# Altium integrated library Analog Devices Data Converters Digital-to-Analog Converters.IntLib: 2231 symbols (part 23 of 181)
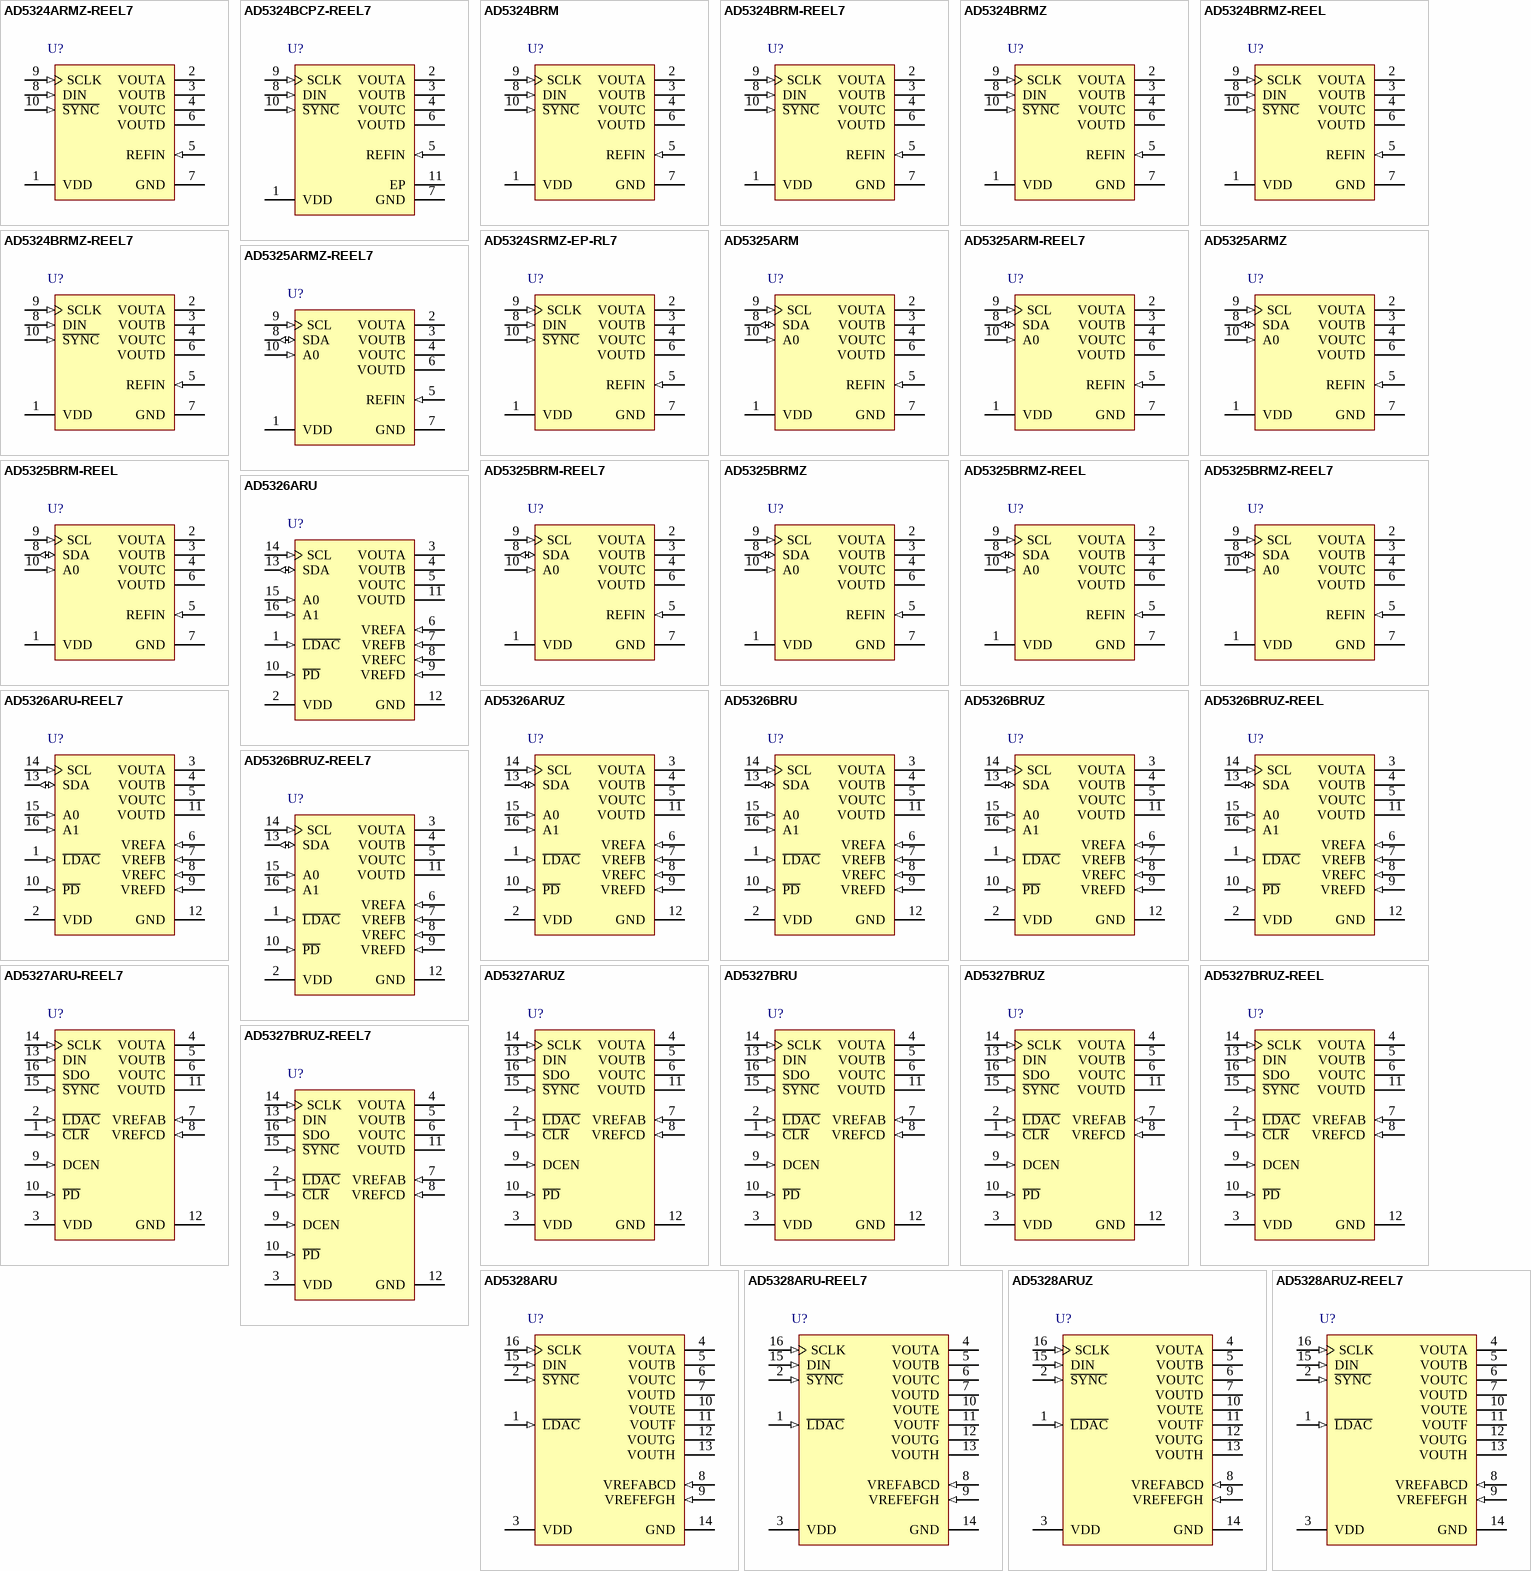
[diagram p136: symbols AD5324ARMZ-REEL7 to AD5328ARUZ-REEL7]

## AD5324BRM
designator U?
Quad 12-Bit Quad Voltage Output Digital-to-Analog Converter, 2.5 to 5.5 V, 500 uA, -40 to +105 degC, RM-10, Tube; Generic Part Number: AD5324; Manufacturer: Analog Devices; PartNumber: AD5324BRM; # DAC Outputs: 4; Max V+: 5.5V; Op Pwr Diss: 5mW; Resolution (Bits): 12; Settling Time: 8µs; Single Supply: Yes; DatasheetVersion: Rev.H; PackageVersion: May-2005; PackageReference: RM-10; PackageDescription: 10-Lead Mini Small Outline Package [MSOP]; Supplier 1: Digi-Key; Supplier Part Number 1: AD5324BRM-ND; Supplier 2: Mouser; Supplier Part Number 2: 584-AD5324BRM; Packing: Tube; RoHS: N; Mounting Technology: Surface Mount; ComponentLink1Description: Manufacturer URL; ComponentLink1URL: http://www.analog.com/en/index.html; ComponentLink2Description: Datasheet; ComponentLink2URL: http://www.analog.com/static/imported-files/data_sheets/AD5304_5314_5324.pdf; ComponentLink3Description: Package Specification; ComponentLink3URL: http://www.analog.com/static/imported-files/packages/PKG_PDF/MSOP%28RM%29/RM_10.pdf; ComponentLink4Description: Product URL; ComponentLink4URL: http://www.analog.com/en/digital-to-analog-converters/da-converters/ad5324/products/product.html
footprint RM-10_N (TSSOP, 10-Leads, Body 3x3mm, Pitch 0.5mm, IPC Medium Density)
footprint RM-10_L (TSSOP, 10-Leads, Body 3x3mm, Pitch 0.5mm, IPC High Density)
footprint RM-10_M (TSSOP, 10-Leads, Body 3x3mm, Pitch 0.5mm, IPC Low Density)
pins: 1 VDD (power) "Power Supply Input. These parts can be operated from 2.5 V to 5.5 V and the supply can be decoupled to GND.", 2 VOUTA (hiz) "Buffered Analog Output Voltage from DAC A. The output amplifier has rail-to-rail operation.", 3 VOUTB (hiz) "Buffered Analog Output Voltage from DAC B. The output amplifier has rail-to-rail operation.", 4 VOUTC (hiz) "Buffered Analog Output Voltage from DAC C. The output amplifier has rail-to-rail operation.", 5 REFIN (in) "Reference Input Pin for All Four DACs. It has an input range from 0.25 V to VDD.", 6 VOUTD (hiz) "Buffered Analog Output Voltage from DAC D. The output amplifier has rail-to-rail operation.", 7 GND (power) "Ground Reference Point for All Circuitry on the Part.", 8 DIN (in) "Serial Data Input. This device has a 16-bit shift register. Data is clocked into the register on the falling edge of the serial clock input. The DIN input buffer is powered down after each write cycle.", 9 SCLK (in) "Serial Clock Input. Data is clocked into the input shift register on the falling edge of the serial clock input. Data can be transferred at clock speeds up to 30 MHz. The SCLK input buffer is powered down after each write (See Datasheet)", 10 ~{SYNC} (in) "Active Low Control Input. This is the frame synchronization signal for the input data. When S\Y\N\C\ goes low, it enables the input shift register and data is transferred in on the falling edges of the following 16 clocks. (See Datasheet)"

## AD5324BRM-REEL7
designator U?
Quad 12-Bit Quad Voltage Output Digital-to-Analog Converter, 2.5 to 5.5 V, 500 uA, -40 to +105 degC, RM-10, Reel; Generic Part Number: AD5324; Manufacturer: Analog Devices; PartNumber: AD5324BRM-REEL7; # DAC Outputs: 4; Max V+: 5.5V; Op Pwr Diss: 5mW; Resolution (Bits): 12; Settling Time: 8µs; Single Supply: Yes; DatasheetVersion: Rev.H; PackageVersion: May-2005; PackageReference: RM-10; PackageDescription: 10-Lead Mini Small Outline Package [MSOP]; Supplier 1: Digi-Key; Supplier Part Number 1: AD5324BRM-REEL7-ND; Supplier 2: Newark; Supplier Part Number 2: 02H1469; Supplier 3: Mouser; Supplier Part Number 3: 584-AD5324BRM-R7; Packing: Reel; RoHS: N; Mounting Technology: Surface Mount; ComponentLink1Description: Manufacturer URL; ComponentLink1URL: http://www.analog.com/en/index.html; ComponentLink2Description: Datasheet; ComponentLink2URL: http://www.analog.com/static/imported-files/data_sheets/AD5304_5314_5324.pdf; ComponentLink3Description: Package Specification; ComponentLink3URL: http://www.analog.com/static/imported-files/packages/PKG_PDF/MSOP%28RM%29/RM_10.pdf; ComponentLink4Description: Product URL; ComponentLink4URL: http://www.analog.com/en/digital-to-analog-converters/da-converters/ad5324/products/product.html
footprint RM-10_N (TSSOP, 10-Leads, Body 3x3mm, Pitch 0.5mm, IPC Medium Density)
footprint RM-10_L (TSSOP, 10-Leads, Body 3x3mm, Pitch 0.5mm, IPC High Density)
footprint RM-10_M (TSSOP, 10-Leads, Body 3x3mm, Pitch 0.5mm, IPC Low Density)
pins: 1 VDD (power) "Power Supply Input. These parts can be operated from 2.5 V to 5.5 V and the supply can be decoupled to GND.", 2 VOUTA (hiz) "Buffered Analog Output Voltage from DAC A. The output amplifier has rail-to-rail operation.", 3 VOUTB (hiz) "Buffered Analog Output Voltage from DAC B. The output amplifier has rail-to-rail operation.", 4 VOUTC (hiz) "Buffered Analog Output Voltage from DAC C. The output amplifier has rail-to-rail operation.", 5 REFIN (in) "Reference Input Pin for All Four DACs. It has an input range from 0.25 V to VDD.", 6 VOUTD (hiz) "Buffered Analog Output Voltage from DAC D. The output amplifier has rail-to-rail operation.", 7 GND (power) "Ground Reference Point for All Circuitry on the Part.", 8 DIN (in) "Serial Data Input. This device has a 16-bit shift register. Data is clocked into the register on the falling edge of the serial clock input. The DIN input buffer is powered down after each write cycle.", 9 SCLK (in) "Serial Clock Input. Data is clocked into the input shift register on the falling edge of the serial clock input. Data can be transferred at clock speeds up to 30 MHz. The SCLK input buffer is powered down after each write (See Datasheet)", 10 ~{SYNC} (in) "Active Low Control Input. This is the frame synchronization signal for the input data. When S\Y\N\C\ goes low, it enables the input shift register and data is transferred in on the falling edges of the following 16 clocks. (See Datasheet)"

## AD5324BRMZ
designator U?
Quad 12-Bit Quad Voltage Output Digital-to-Analog Converter, 2.5 to 5.5 V, 500 uA, -40 to +105 degC, RM-10, Pb-Free, Tube; Generic Part Number: AD5324; Manufacturer: Analog Devices; PartNumber: AD5324BRMZ; # DAC Outputs: 4; Max V+: 5.5V; Op Pwr Diss: 5mW; Resolution (Bits): 12; Settling Time: 8µs; Single Supply: Yes; DatasheetVersion: Rev.H; PackageVersion: May-2005; PackageReference: RM-10; PackageDescription: 10-Lead Mini Small Outline Package [MSOP]; Supplier 1: Digi-Key; Supplier Part Number 1: AD5324BRMZ-ND; Supplier 2: Farnell; Supplier Part Number 2: 9425942; Supplier 3: Newark; Supplier Part Number 3: 87H9897; Supplier 4: Mouser; Supplier Part Number 4: 584-AD5324BRMZ; Packing: Tube; RoHS: Y; Mounting Technology: Surface Mount; ComponentLink1Description: Manufacturer URL; ComponentLink1URL: http://www.analog.com/en/index.html; ComponentLink2Description: Datasheet; ComponentLink2URL: http://www.analog.com/static/imported-files/data_sheets/AD5304_5314_5324.pdf; ComponentLink3Description: Package Specification; ComponentLink3URL: http://www.analog.com/static/imported-files/packages/PKG_PDF/MSOP%28RM%29/RM_10.pdf; ComponentLink4Description: Product URL; ComponentLink4URL: http://www.analog.com/en/digital-to-analog-converters/da-converters/ad5324/products/product.html
footprint RM-10_N (TSSOP, 10-Leads, Body 3x3mm, Pitch 0.5mm, IPC Medium Density)
footprint RM-10_L (TSSOP, 10-Leads, Body 3x3mm, Pitch 0.5mm, IPC High Density)
footprint RM-10_M (TSSOP, 10-Leads, Body 3x3mm, Pitch 0.5mm, IPC Low Density)
pins: 1 VDD (power) "Power Supply Input. These parts can be operated from 2.5 V to 5.5 V and the supply can be decoupled to GND.", 2 VOUTA (hiz) "Buffered Analog Output Voltage from DAC A. The output amplifier has rail-to-rail operation.", 3 VOUTB (hiz) "Buffered Analog Output Voltage from DAC B. The output amplifier has rail-to-rail operation.", 4 VOUTC (hiz) "Buffered Analog Output Voltage from DAC C. The output amplifier has rail-to-rail operation.", 5 REFIN (in) "Reference Input Pin for All Four DACs. It has an input range from 0.25 V to VDD.", 6 VOUTD (hiz) "Buffered Analog Output Voltage from DAC D. The output amplifier has rail-to-rail operation.", 7 GND (power) "Ground Reference Point for All Circuitry on the Part.", 8 DIN (in) "Serial Data Input. This device has a 16-bit shift register. Data is clocked into the register on the falling edge of the serial clock input. The DIN input buffer is powered down after each write cycle.", 9 SCLK (in) "Serial Clock Input. Data is clocked into the input shift register on the falling edge of the serial clock input. Data can be transferred at clock speeds up to 30 MHz. The SCLK input buffer is powered down after each write (See Datasheet)", 10 ~{SYNC} (in) "Active Low Control Input. This is the frame synchronization signal for the input data. When S\Y\N\C\ goes low, it enables the input shift register and data is transferred in on the falling edges of the following 16 clocks. (See Datasheet)"

## AD5324BRMZ-REEL
designator U?
Quad 12-Bit Quad Voltage Output Digital-to-Analog Converter, 2.5 to 5.5 V, 500 uA, -40 to +105 degC, RM-10, Pb-Free, Reel; Generic Part Number: AD5324; Manufacturer: Analog Devices; PartNumber: AD5324BRMZ-REEL; # DAC Outputs: 4; Max V+: 5.5V; Op Pwr Diss: 5mW; Resolution (Bits): 12; Settling Time: 8µs; Single Supply: Yes; DatasheetVersion: Rev.H; PackageVersion: May-2005; PackageReference: RM-10; PackageDescription: 10-Lead Mini Small Outline Package [MSOP]; Supplier 1: Digi-Key; Supplier Part Number 1: AD5324BRMZ-REEL-ND; Supplier 2: Newark; Supplier Part Number 2: 87H9898; Supplier 3: Mouser; Supplier Part Number 3: 584-AD5324BRMZ-R; Packing: Reel; RoHS: Y; Mounting Technology: Surface Mount; ComponentLink1Description: Manufacturer URL; ComponentLink1URL: http://www.analog.com/en/index.html; ComponentLink2Description: Datasheet; ComponentLink2URL: http://www.analog.com/static/imported-files/data_sheets/AD5304_5314_5324.pdf; ComponentLink3Description: Package Specification; ComponentLink3URL: http://www.analog.com/static/imported-files/packages/PKG_PDF/MSOP%28RM%29/RM_10.pdf; ComponentLink4Description: Product URL; ComponentLink4URL: http://www.analog.com/en/digital-to-analog-converters/da-converters/ad5324/products/product.html
footprint RM-10_N (TSSOP, 10-Leads, Body 3x3mm, Pitch 0.5mm, IPC Medium Density)
footprint RM-10_L (TSSOP, 10-Leads, Body 3x3mm, Pitch 0.5mm, IPC High Density)
footprint RM-10_M (TSSOP, 10-Leads, Body 3x3mm, Pitch 0.5mm, IPC Low Density)
pins: 1 VDD (power) "Power Supply Input. These parts can be operated from 2.5 V to 5.5 V and the supply can be decoupled to GND.", 2 VOUTA (hiz) "Buffered Analog Output Voltage from DAC A. The output amplifier has rail-to-rail operation.", 3 VOUTB (hiz) "Buffered Analog Output Voltage from DAC B. The output amplifier has rail-to-rail operation.", 4 VOUTC (hiz) "Buffered Analog Output Voltage from DAC C. The output amplifier has rail-to-rail operation.", 5 REFIN (in) "Reference Input Pin for All Four DACs. It has an input range from 0.25 V to VDD.", 6 VOUTD (hiz) "Buffered Analog Output Voltage from DAC D. The output amplifier has rail-to-rail operation.", 7 GND (power) "Ground Reference Point for All Circuitry on the Part.", 8 DIN (in) "Serial Data Input. This device has a 16-bit shift register. Data is clocked into the register on the falling edge of the serial clock input. The DIN input buffer is powered down after each write cycle.", 9 SCLK (in) "Serial Clock Input. Data is clocked into the input shift register on the falling edge of the serial clock input. Data can be transferred at clock speeds up to 30 MHz. The SCLK input buffer is powered down after each write (See Datasheet)", 10 ~{SYNC} (in) "Active Low Control Input. This is the frame synchronization signal for the input data. When S\Y\N\C\ goes low, it enables the input shift register and data is transferred in on the falling edges of the following 16 clocks. (See Datasheet)"

## AD5324BRMZ-REEL7
designator U?
Quad 12-Bit Quad Voltage Output Digital-to-Analog Converter, 2.5 to 5.5 V, 500 uA, -40 to +105 degC, RM-10, Pb-Free, Reel; Generic Part Number: AD5324; Manufacturer: Analog Devices; PartNumber: AD5324BRMZ-REEL7; # DAC Outputs: 4; Max V+: 5.5V; Op Pwr Diss: 5mW; Resolution (Bits): 12; Settling Time: 8µs; Single Supply: Yes; DatasheetVersion: Rev.H; PackageVersion: May-2005; PackageReference: RM-10; PackageDescription: 10-Lead Mini Small Outline Package [MSOP]; Supplier 1: Digi-Key; Supplier Part Number 1: AD5324BRMZ-REEL7-ND; Supplier 2: Newark; Supplier Part Number 2: 87H9899; Supplier 3: Mouser; Supplier Part Number 3: 584-AD5324BRMZ-R7; Packing: Reel; RoHS: Y; Mounting Technology: Surface Mount; ComponentLink1Description: Manufacturer URL; ComponentLink1URL: http://www.analog.com/en/index.html; ComponentLink2Description: Datasheet; ComponentLink2URL: http://www.analog.com/static/imported-files/data_sheets/AD5304_5314_5324.pdf; ComponentLink3Description: Package Specification; ComponentLink3URL: http://www.analog.com/static/imported-files/packages/PKG_PDF/MSOP%28RM%29/RM_10.pdf; ComponentLink4Description: Product URL; ComponentLink4URL: http://www.analog.com/en/digital-to-analog-converters/da-converters/ad5324/products/product.html
footprint RM-10_N (TSSOP, 10-Leads, Body 3x3mm, Pitch 0.5mm, IPC Medium Density)
footprint RM-10_L (TSSOP, 10-Leads, Body 3x3mm, Pitch 0.5mm, IPC High Density)
footprint RM-10_M (TSSOP, 10-Leads, Body 3x3mm, Pitch 0.5mm, IPC Low Density)
pins: 1 VDD (power) "Power Supply Input. These parts can be operated from 2.5 V to 5.5 V and the supply can be decoupled to GND.", 2 VOUTA (hiz) "Buffered Analog Output Voltage from DAC A. The output amplifier has rail-to-rail operation.", 3 VOUTB (hiz) "Buffered Analog Output Voltage from DAC B. The output amplifier has rail-to-rail operation.", 4 VOUTC (hiz) "Buffered Analog Output Voltage from DAC C. The output amplifier has rail-to-rail operation.", 5 REFIN (in) "Reference Input Pin for All Four DACs. It has an input range from 0.25 V to VDD.", 6 VOUTD (hiz) "Buffered Analog Output Voltage from DAC D. The output amplifier has rail-to-rail operation.", 7 GND (power) "Ground Reference Point for All Circuitry on the Part.", 8 DIN (in) "Serial Data Input. This device has a 16-bit shift register. Data is clocked into the register on the falling edge of the serial clock input. The DIN input buffer is powered down after each write cycle.", 9 SCLK (in) "Serial Clock Input. Data is clocked into the input shift register on the falling edge of the serial clock input. Data can be transferred at clock speeds up to 30 MHz. The SCLK input buffer is powered down after each write (See Datasheet)", 10 ~{SYNC} (in) "Active Low Control Input. This is the frame synchronization signal for the input data. When S\Y\N\C\ goes low, it enables the input shift register and data is transferred in on the falling edges of the following 16 clocks. (See Datasheet)"

## AD5324SRMZ-EP-RL7
designator U?
Quad 12-Bit Quad Voltage Output Digital-to-Analog Converter, 2.5 to 5.5 V, 500 uA, -55 to +125 degC, RM-10, Pb-Free, Reel; Generic Part Number: AD5324; Manufacturer: Analog Devices; PartNumber: AD5324SRMZ-EP-RL7; # DAC Outputs: 4; Max V+: 5.5V; Op Pwr Diss: 5mW; Resolution (Bits): 12; Settling Time: 8µs; Single Supply: Yes; DatasheetVersion: Rev.H; PackageVersion: May-2005; PackageReference: RM-10; PackageDescription: 10-Lead Mini Small Outline Package [MSOP]; Supplier 1: Digi-Key; Supplier Part Number 1: AD5324SRMZ-EP-RL7TR-ND; Supplier 2: Digi-Key; Supplier Part Number 2: AD5324SRMZ-EP-RL7CT-ND; Supplier 3: Digi-Key; Supplier Part Number 3: AD5324SRMZ-EP-RL7DKR-ND; Supplier 4: Mouser; Supplier Part Number 4: 584-AD5324SRMZ-EP-R7; Packing: Reel; RoHS: Y; Mounting Technology: Surface Mount; ComponentLink1Description: Manufacturer URL; ComponentLink1URL: http://www.analog.com/en/index.html; ComponentLink2Description: Datasheet; ComponentLink2URL: http://www.analog.com/static/imported-files/data_sheets/AD5304_5314_5324.pdf; ComponentLink3Description: Package Specification; ComponentLink3URL: http://www.analog.com/static/imported-files/packages/PKG_PDF/MSOP%28RM%29/RM_10.pdf; ComponentLink4Description: Product URL; ComponentLink4URL: http://www.analog.com/en/digital-to-analog-converters/da-converters/ad5324/products/product.html
footprint RM-10_N (TSSOP, 10-Leads, Body 3x3mm, Pitch 0.5mm, IPC Medium Density)
footprint RM-10_L (TSSOP, 10-Leads, Body 3x3mm, Pitch 0.5mm, IPC High Density)
footprint RM-10_M (TSSOP, 10-Leads, Body 3x3mm, Pitch 0.5mm, IPC Low Density)
pins: 1 VDD (power) "Power Supply Input. These parts can be operated from 2.5 V to 5.5 V and the supply can be decoupled to GND.", 2 VOUTA (hiz) "Buffered Analog Output Voltage from DAC A. The output amplifier has rail-to-rail operation.", 3 VOUTB (hiz) "Buffered Analog Output Voltage from DAC B. The output amplifier has rail-to-rail operation.", 4 VOUTC (hiz) "Buffered Analog Output Voltage from DAC C. The output amplifier has rail-to-rail operation.", 5 REFIN (in) "Reference Input Pin for All Four DACs. It has an input range from 0.25 V to VDD.", 6 VOUTD (hiz) "Buffered Analog Output Voltage from DAC D. The output amplifier has rail-to-rail operation.", 7 GND (power) "Ground Reference Point for All Circuitry on the Part.", 8 DIN (in) "Serial Data Input. This device has a 16-bit shift register. Data is clocked into the register on the falling edge of the serial clock input. The DIN input buffer is powered down after each write cycle.", 9 SCLK (in) "Serial Clock Input. Data is clocked into the input shift register on the falling edge of the serial clock input. Data can be transferred at clock speeds up to 30 MHz. The SCLK input buffer is powered down after each write (See Datasheet)", 10 ~{SYNC} (in) "Active Low Control Input. This is the frame synchronization signal for the input data. When S\Y\N\C\ goes low, it enables the input shift register and data is transferred in on the falling edges of the following 16 clocks. (See Datasheet)"

## AD5325ARM
designator U?
Quad 12-Bit Quad Voltage Output Digital-to-Analog Converter with 2-Wire Interface, 2.5 to 5.5 V, 500 uA, 0 to +70 degC, RM-10, Tube; Generic Part Number: AD5325; Manufacturer: Analog Devices; PartNumber: AD5325ARM; # DAC Outputs: 4; Max V+: 5.5V; Op Pwr Diss: 5mW; Resolution (Bits): 12; Settling Time: 8µs; Single Supply: Yes; DatasheetVersion: Rev.G; PackageVersion: May-2005; PackageReference: RM-10; PackageDescription: 10-Lead Mini Small Outline Package [MSOP]; Supplier 1: Digi-Key; Supplier Part Number 1: AD5325ARM-ND; Supplier 2: Mouser; Supplier Part Number 2: 584-AD5325ARM; Packing: Tube; RoHS: N; Mounting Technology: Surface Mount; ComponentLink1Description: Manufacturer URL; ComponentLink1URL: http://www.analog.com/en/index.html; ComponentLink2Description: Datasheet; ComponentLink2URL: http://www.analog.com/static/imported-files/data_sheets/AD5305_5315_5325.pdf; ComponentLink3Description: Package Specification; ComponentLink3URL: http://www.analog.com/static/imported-files/packages/PKG_PDF/MSOP%28RM%29/RM_10.pdf; ComponentLink4Description: Product URL; ComponentLink4URL: http://www.analog.com/en/digital-to-analog-converters/da-converters/ad5325/products/product.html
footprint RM-10_N (TSSOP, 10-Leads, Body 3x3mm, Pitch 0.5mm, IPC Medium Density)
footprint RM-10_L (TSSOP, 10-Leads, Body 3x3mm, Pitch 0.5mm, IPC High Density)
footprint RM-10_M (TSSOP, 10-Leads, Body 3x3mm, Pitch 0.5mm, IPC Low Density)
pins: 1 VDD (power) "Power Supply Input. These parts can be operated from 2.5 V to 5.5 V and the supply should be decoupled to GND.", 2 VOUTA (hiz) "Buffered Analog Output Voltage from DAC A. The output amplifier has rail-to-rail operation.", 3 VOUTB (hiz) "Buffered Analog Output Voltage from DAC B. The output amplifier has rail-to-rail operation.", 4 VOUTC (hiz) "Buffered Analog Output Voltage from DAC C. The output amplifier has rail-to-rail operation.", 5 REFIN (in) "Reference Input Pin for All Four DACs. It has an input range from 0.25 V to VDD.", 6 VOUTD (hiz) "Buffered Analog Output Voltage from DAC D. The output amplifier has rail-to-rail operation.", 7 GND (power) "Ground Reference Point for All Circuitry on the Part.", 8 SDA (io) "Serial Data Line. This is used in conjunction with the SCL line to clock data into or out of the 16-bit input shift register. It is a bidirectional open-drain data line that should be pulled to the supply with an external (See Datasheet)", 9 SCL (in) "Serial Clock Line. This is used in conjunction with the SDA line to clock data into or out of the 16-bit input shift register. Clock rates of up to 400 kb/s can be accommodated in the 2-wire interface.", 10 A0 (in) "Address Input. Sets the least significant bit of the 7-bit slave address."

## AD5325ARM-REEL7
designator U?
Quad 12-Bit Quad Voltage Output Digital-to-Analog Converter with 2-Wire Interface, 2.5 to 5.5 V, 500 uA, 0 to +70 degC, RM-10, Reel; Generic Part Number: AD5325; Manufacturer: Analog Devices; PartNumber: AD5325ARM-REEL7; # DAC Outputs: 4; Max V+: 5.5V; Op Pwr Diss: 5mW; Resolution (Bits): 12; Settling Time: 8µs; Single Supply: Yes; DatasheetVersion: Rev.G; PackageVersion: May-2005; PackageReference: RM-10; PackageDescription: 10-Lead Mini Small Outline Package [MSOP]; Supplier 1: Digi-Key; Supplier Part Number 1: AD5325ARM-REEL7-ND; Supplier 2: Mouser; Supplier Part Number 2: 584-AD5325ARM-R7; Packing: Reel; RoHS: N; Mounting Technology: Surface Mount; ComponentLink1Description: Manufacturer URL; ComponentLink1URL: http://www.analog.com/en/index.html; ComponentLink2Description: Datasheet; ComponentLink2URL: http://www.analog.com/static/imported-files/data_sheets/AD5305_5315_5325.pdf; ComponentLink3Description: Package Specification; ComponentLink3URL: http://www.analog.com/static/imported-files/packages/PKG_PDF/MSOP%28RM%29/RM_10.pdf; ComponentLink4Description: Product URL; ComponentLink4URL: http://www.analog.com/en/digital-to-analog-converters/da-converters/ad5325/products/product.html
footprint RM-10_N (TSSOP, 10-Leads, Body 3x3mm, Pitch 0.5mm, IPC Medium Density)
footprint RM-10_L (TSSOP, 10-Leads, Body 3x3mm, Pitch 0.5mm, IPC High Density)
footprint RM-10_M (TSSOP, 10-Leads, Body 3x3mm, Pitch 0.5mm, IPC Low Density)
pins: 1 VDD (power) "Power Supply Input. These parts can be operated from 2.5 V to 5.5 V and the supply should be decoupled to GND.", 2 VOUTA (hiz) "Buffered Analog Output Voltage from DAC A. The output amplifier has rail-to-rail operation.", 3 VOUTB (hiz) "Buffered Analog Output Voltage from DAC B. The output amplifier has rail-to-rail operation.", 4 VOUTC (hiz) "Buffered Analog Output Voltage from DAC C. The output amplifier has rail-to-rail operation.", 5 REFIN (in) "Reference Input Pin for All Four DACs. It has an input range from 0.25 V to VDD.", 6 VOUTD (hiz) "Buffered Analog Output Voltage from DAC D. The output amplifier has rail-to-rail operation.", 7 GND (power) "Ground Reference Point for All Circuitry on the Part.", 8 SDA (io) "Serial Data Line. This is used in conjunction with the SCL line to clock data into or out of the 16-bit input shift register. It is a bidirectional open-drain data line that should be pulled to the supply with an external (See Datasheet)", 9 SCL (in) "Serial Clock Line. This is used in conjunction with the SDA line to clock data into or out of the 16-bit input shift register. Clock rates of up to 400 kb/s can be accommodated in the 2-wire interface.", 10 A0 (in) "Address Input. Sets the least significant bit of the 7-bit slave address."

## AD5325ARMZ
designator U?
Quad 12-Bit Quad Voltage Output Digital-to-Analog Converter with 2-Wire Interface, 2.5 to 5.5 V, 500 uA, 0 to +70 degC, RM-10, Pb-Free, Tube; Generic Part Number: AD5325; Manufacturer: Analog Devices; PartNumber: AD5325ARMZ; # DAC Outputs: 4; Max V+: 5.5V; Op Pwr Diss: 5mW; Resolution (Bits): 12; Settling Time: 8µs; Single Supply: Yes; DatasheetVersion: Rev.G; PackageVersion: May-2005; PackageReference: RM-10; PackageDescription: 10-Lead Mini Small Outline Package [MSOP]; Supplier 1: Digi-Key; Supplier Part Number 1: AD5325ARMZ-ND; Supplier 2: Newark; Supplier Part Number 2: 59K3940; Supplier 3: Mouser; Supplier Part Number 3: 584-AD5325ARMZ; Packing: Tube; RoHS: Y; Mounting Technology: Surface Mount; ComponentLink1Description: Manufacturer URL; ComponentLink1URL: http://www.analog.com/en/index.html; ComponentLink2Description: Datasheet; ComponentLink2URL: http://www.analog.com/static/imported-files/data_sheets/AD5305_5315_5325.pdf; ComponentLink3Description: Package Specification; ComponentLink3URL: http://www.analog.com/static/imported-files/packages/PKG_PDF/MSOP%28RM%29/RM_10.pdf; ComponentLink4Description: Product URL; ComponentLink4URL: http://www.analog.com/en/digital-to-analog-converters/da-converters/ad5325/products/product.html
footprint RM-10_N (TSSOP, 10-Leads, Body 3x3mm, Pitch 0.5mm, IPC Medium Density)
footprint RM-10_L (TSSOP, 10-Leads, Body 3x3mm, Pitch 0.5mm, IPC High Density)
footprint RM-10_M (TSSOP, 10-Leads, Body 3x3mm, Pitch 0.5mm, IPC Low Density)
pins: 1 VDD (power) "Power Supply Input. These parts can be operated from 2.5 V to 5.5 V and the supply should be decoupled to GND.", 2 VOUTA (hiz) "Buffered Analog Output Voltage from DAC A. The output amplifier has rail-to-rail operation.", 3 VOUTB (hiz) "Buffered Analog Output Voltage from DAC B. The output amplifier has rail-to-rail operation.", 4 VOUTC (hiz) "Buffered Analog Output Voltage from DAC C. The output amplifier has rail-to-rail operation.", 5 REFIN (in) "Reference Input Pin for All Four DACs. It has an input range from 0.25 V to VDD.", 6 VOUTD (hiz) "Buffered Analog Output Voltage from DAC D. The output amplifier has rail-to-rail operation.", 7 GND (power) "Ground Reference Point for All Circuitry on the Part.", 8 SDA (io) "Serial Data Line. This is used in conjunction with the SCL line to clock data into or out of the 16-bit input shift register. It is a bidirectional open-drain data line that should be pulled to the supply with an external (See Datasheet)", 9 SCL (in) "Serial Clock Line. This is used in conjunction with the SDA line to clock data into or out of the 16-bit input shift register. Clock rates of up to 400 kb/s can be accommodated in the 2-wire interface.", 10 A0 (in) "Address Input. Sets the least significant bit of the 7-bit slave address."

## AD5325ARMZ-REEL7
designator U?
Quad 12-Bit Quad Voltage Output Digital-to-Analog Converter with 2-Wire Interface, 2.5 to 5.5 V, 500 uA, 0 to +70 degC, RM-10, Pb-Free, Reel; Generic Part Number: AD5325; Manufacturer: Analog Devices; PartNumber: AD5325ARMZ-REEL7; # DAC Outputs: 4; Max V+: 5.5V; Op Pwr Diss: 5mW; Resolution (Bits): 12; Settling Time: 8µs; Single Supply: Yes; DatasheetVersion: Rev.G; PackageVersion: May-2005; PackageReference: RM-10; PackageDescription: 10-Lead Mini Small Outline Package [MSOP]; Supplier 1: Digi-Key; Supplier Part Number 1: AD5325ARMZ-REEL7-ND; Supplier 2: Newark; Supplier Part Number 2: 34M4956; Supplier 3: Mouser; Supplier Part Number 3: 584-AD5325ARMZ-R7; Packing: Reel; RoHS: Y; Mounting Technology: Surface Mount; ComponentLink1Description: Manufacturer URL; ComponentLink1URL: http://www.analog.com/en/index.html; ComponentLink2Description: Datasheet; ComponentLink2URL: http://www.analog.com/static/imported-files/data_sheets/AD5305_5315_5325.pdf; ComponentLink3Description: Package Specification; ComponentLink3URL: http://www.analog.com/static/imported-files/packages/PKG_PDF/MSOP%28RM%29/RM_10.pdf; ComponentLink4Description: Product URL; ComponentLink4URL: http://www.analog.com/en/digital-to-analog-converters/da-converters/ad5325/products/product.html
footprint RM-10_N (TSSOP, 10-Leads, Body 3x3mm, Pitch 0.5mm, IPC Medium Density)
footprint RM-10_L (TSSOP, 10-Leads, Body 3x3mm, Pitch 0.5mm, IPC High Density)
footprint RM-10_M (TSSOP, 10-Leads, Body 3x3mm, Pitch 0.5mm, IPC Low Density)
pins: 1 VDD (power) "Power Supply Input. These parts can be operated from 2.5 V to 5.5 V and the supply should be decoupled to GND.", 2 VOUTA (hiz) "Buffered Analog Output Voltage from DAC A. The output amplifier has rail-to-rail operation.", 3 VOUTB (hiz) "Buffered Analog Output Voltage from DAC B. The output amplifier has rail-to-rail operation.", 4 VOUTC (hiz) "Buffered Analog Output Voltage from DAC C. The output amplifier has rail-to-rail operation.", 5 REFIN (in) "Reference Input Pin for All Four DACs. It has an input range from 0.25 V to VDD.", 6 VOUTD (hiz) "Buffered Analog Output Voltage from DAC D. The output amplifier has rail-to-rail operation.", 7 GND (power) "Ground Reference Point for All Circuitry on the Part.", 8 SDA (io) "Serial Data Line. This is used in conjunction with the SCL line to clock data into or out of the 16-bit input shift register. It is a bidirectional open-drain data line that should be pulled to the supply with an external (See Datasheet)", 9 SCL (in) "Serial Clock Line. This is used in conjunction with the SDA line to clock data into or out of the 16-bit input shift register. Clock rates of up to 400 kb/s can be accommodated in the 2-wire interface.", 10 A0 (in) "Address Input. Sets the least significant bit of the 7-bit slave address."

## AD5325BRM-REEL
designator U?
Quad 12-Bit Quad Voltage Output Digital-to-Analog Converter with 2-Wire Interface, 2.5 to 5.5 V, 500 uA, -40 to +105 degC, RM-10, Reel; Generic Part Number: AD5325; Manufacturer: Analog Devices; PartNumber: AD5325BRM-REEL; # DAC Outputs: 4; Max V+: 5.5V; Op Pwr Diss: 5mW; Resolution (Bits): 12; Settling Time: 8µs; Single Supply: Yes; DatasheetVersion: Rev.G; PackageVersion: May-2005; PackageReference: RM-10; PackageDescription: 10-Lead Mini Small Outline Package [MSOP]; Supplier 1: Digi-Key; Supplier Part Number 1: AD5325BRM-REELTR-ND; Supplier 2: Digi-Key; Supplier Part Number 2: AD5325BRM-REELCT-ND; Supplier 3: Digi-Key; Supplier Part Number 3: AD5325BRM-REELDKR-ND; Supplier 4: Mouser; Supplier Part Number 4: 584-AD5325BRM-R; Packing: Reel; RoHS: N; Mounting Technology: Surface Mount; ComponentLink1Description: Manufacturer URL; ComponentLink1URL: http://www.analog.com/en/index.html; ComponentLink2Description: Datasheet; ComponentLink2URL: http://www.analog.com/static/imported-files/data_sheets/AD5305_5315_5325.pdf; ComponentLink3Description: Package Specification; ComponentLink3URL: http://www.analog.com/static/imported-files/packages/PKG_PDF/MSOP%28RM%29/RM_10.pdf; ComponentLink4Description: Product URL; ComponentLink4URL: http://www.analog.com/en/digital-to-analog-converters/da-converters/ad5325/products/product.html
footprint RM-10_N (TSSOP, 10-Leads, Body 3x3mm, Pitch 0.5mm, IPC Medium Density)
footprint RM-10_L (TSSOP, 10-Leads, Body 3x3mm, Pitch 0.5mm, IPC High Density)
footprint RM-10_M (TSSOP, 10-Leads, Body 3x3mm, Pitch 0.5mm, IPC Low Density)
pins: 1 VDD (power) "Power Supply Input. These parts can be operated from 2.5 V to 5.5 V and the supply should be decoupled to GND.", 2 VOUTA (hiz) "Buffered Analog Output Voltage from DAC A. The output amplifier has rail-to-rail operation.", 3 VOUTB (hiz) "Buffered Analog Output Voltage from DAC B. The output amplifier has rail-to-rail operation.", 4 VOUTC (hiz) "Buffered Analog Output Voltage from DAC C. The output amplifier has rail-to-rail operation.", 5 REFIN (in) "Reference Input Pin for All Four DACs. It has an input range from 0.25 V to VDD.", 6 VOUTD (hiz) "Buffered Analog Output Voltage from DAC D. The output amplifier has rail-to-rail operation.", 7 GND (power) "Ground Reference Point for All Circuitry on the Part.", 8 SDA (io) "Serial Data Line. This is used in conjunction with the SCL line to clock data into or out of the 16-bit input shift register. It is a bidirectional open-drain data line that should be pulled to the supply with an external (See Datasheet)", 9 SCL (in) "Serial Clock Line. This is used in conjunction with the SDA line to clock data into or out of the 16-bit input shift register. Clock rates of up to 400 kb/s can be accommodated in the 2-wire interface.", 10 A0 (in) "Address Input. Sets the least significant bit of the 7-bit slave address."

## AD5325BRM-REEL7
designator U?
Quad 12-Bit Quad Voltage Output Digital-to-Analog Converter with 2-Wire Interface, 2.5 to 5.5 V, 500 uA, -40 to +105 degC, RM-10, Reel; Generic Part Number: AD5325; Manufacturer: Analog Devices; PartNumber: AD5325BRM-REEL7; # DAC Outputs: 4; Max V+: 5.5V; Op Pwr Diss: 5mW; Resolution (Bits): 12; Settling Time: 8µs; Single Supply: Yes; DatasheetVersion: Rev.G; PackageVersion: May-2005; PackageReference: RM-10; PackageDescription: 10-Lead Mini Small Outline Package [MSOP]; Supplier 1: Digi-Key; Supplier Part Number 1: AD5325BRM-REEL7TR-ND; Supplier 2: Digi-Key; Supplier Part Number 2: AD5325BRM-REEL7CT-ND; Supplier 3: Digi-Key; Supplier Part Number 3: AD5325BRM-REEL7DKR-ND; Supplier 4: Mouser; Supplier Part Number 4: 584-AD5325BRM-R7; Packing: Reel; RoHS: N; Mounting Technology: Surface Mount; ComponentLink1Description: Manufacturer URL; ComponentLink1URL: http://www.analog.com/en/index.html; ComponentLink2Description: Datasheet; ComponentLink2URL: http://www.analog.com/static/imported-files/data_sheets/AD5305_5315_5325.pdf; ComponentLink3Description: Package Specification; ComponentLink3URL: http://www.analog.com/static/imported-files/packages/PKG_PDF/MSOP%28RM%29/RM_10.pdf; ComponentLink4Description: Product URL; ComponentLink4URL: http://www.analog.com/en/digital-to-analog-converters/da-converters/ad5325/products/product.html
footprint RM-10_N (TSSOP, 10-Leads, Body 3x3mm, Pitch 0.5mm, IPC Medium Density)
footprint RM-10_L (TSSOP, 10-Leads, Body 3x3mm, Pitch 0.5mm, IPC High Density)
footprint RM-10_M (TSSOP, 10-Leads, Body 3x3mm, Pitch 0.5mm, IPC Low Density)
pins: 1 VDD (power) "Power Supply Input. These parts can be operated from 2.5 V to 5.5 V and the supply should be decoupled to GND.", 2 VOUTA (hiz) "Buffered Analog Output Voltage from DAC A. The output amplifier has rail-to-rail operation.", 3 VOUTB (hiz) "Buffered Analog Output Voltage from DAC B. The output amplifier has rail-to-rail operation.", 4 VOUTC (hiz) "Buffered Analog Output Voltage from DAC C. The output amplifier has rail-to-rail operation.", 5 REFIN (in) "Reference Input Pin for All Four DACs. It has an input range from 0.25 V to VDD.", 6 VOUTD (hiz) "Buffered Analog Output Voltage from DAC D. The output amplifier has rail-to-rail operation.", 7 GND (power) "Ground Reference Point for All Circuitry on the Part.", 8 SDA (io) "Serial Data Line. This is used in conjunction with the SCL line to clock data into or out of the 16-bit input shift register. It is a bidirectional open-drain data line that should be pulled to the supply with an external (See Datasheet)", 9 SCL (in) "Serial Clock Line. This is used in conjunction with the SDA line to clock data into or out of the 16-bit input shift register. Clock rates of up to 400 kb/s can be accommodated in the 2-wire interface.", 10 A0 (in) "Address Input. Sets the least significant bit of the 7-bit slave address."

## AD5325BRMZ
designator U?
Quad 12-Bit Quad Voltage Output Digital-to-Analog Converter with 2-Wire Interface, 2.5 to 5.5 V, 500 uA, -40 to +105 degC, RM-10, Pb-Free, Tube; Generic Part Number: AD5325; Manufacturer: Analog Devices; PartNumber: AD5325BRMZ; # DAC Outputs: 4; Max V+: 5.5V; Op Pwr Diss: 5mW; Resolution (Bits): 12; Settling Time: 8µs; Single Supply: Yes; DatasheetVersion: Rev.G; PackageVersion: May-2005; PackageReference: RM-10; PackageDescription: 10-Lead Mini Small Outline Package [MSOP]; Supplier 1: Digi-Key; Supplier Part Number 1: AD5325BRMZ-ND; Supplier 2: Farnell; Supplier Part Number 2: 1079339; Supplier 3: Newark; Supplier Part Number 3: 19M0811; Supplier 4: Mouser; Supplier Part Number 4: 584-AD5325BRMZ; Packing: Tube; RoHS: Y; Mounting Technology: Surface Mount; ComponentLink1Description: Manufacturer URL; ComponentLink1URL: http://www.analog.com/en/index.html; ComponentLink2Description: Datasheet; ComponentLink2URL: http://www.analog.com/static/imported-files/data_sheets/AD5305_5315_5325.pdf; ComponentLink3Description: Package Specification; ComponentLink3URL: http://www.analog.com/static/imported-files/packages/PKG_PDF/MSOP%28RM%29/RM_10.pdf; ComponentLink4Description: Product URL; ComponentLink4URL: http://www.analog.com/en/digital-to-analog-converters/da-converters/ad5325/products/product.html
footprint RM-10_N (TSSOP, 10-Leads, Body 3x3mm, Pitch 0.5mm, IPC Medium Density)
footprint RM-10_L (TSSOP, 10-Leads, Body 3x3mm, Pitch 0.5mm, IPC High Density)
footprint RM-10_M (TSSOP, 10-Leads, Body 3x3mm, Pitch 0.5mm, IPC Low Density)
pins: 1 VDD (power) "Power Supply Input. These parts can be operated from 2.5 V to 5.5 V and the supply should be decoupled to GND.", 2 VOUTA (hiz) "Buffered Analog Output Voltage from DAC A. The output amplifier has rail-to-rail operation.", 3 VOUTB (hiz) "Buffered Analog Output Voltage from DAC B. The output amplifier has rail-to-rail operation.", 4 VOUTC (hiz) "Buffered Analog Output Voltage from DAC C. The output amplifier has rail-to-rail operation.", 5 REFIN (in) "Reference Input Pin for All Four DACs. It has an input range from 0.25 V to VDD.", 6 VOUTD (hiz) "Buffered Analog Output Voltage from DAC D. The output amplifier has rail-to-rail operation.", 7 GND (power) "Ground Reference Point for All Circuitry on the Part.", 8 SDA (io) "Serial Data Line. This is used in conjunction with the SCL line to clock data into or out of the 16-bit input shift register. It is a bidirectional open-drain data line that should be pulled to the supply with an external (See Datasheet)", 9 SCL (in) "Serial Clock Line. This is used in conjunction with the SDA line to clock data into or out of the 16-bit input shift register. Clock rates of up to 400 kb/s can be accommodated in the 2-wire interface.", 10 A0 (in) "Address Input. Sets the least significant bit of the 7-bit slave address."

## AD5325BRMZ-REEL
designator U?
Quad 12-Bit Quad Voltage Output Digital-to-Analog Converter with 2-Wire Interface, 2.5 to 5.5 V, 500 uA, -40 to +105 degC, RM-10, Pb-Free, Reel; Generic Part Number: AD5325; Manufacturer: Analog Devices; PartNumber: AD5325BRMZ-REEL; # DAC Outputs: 4; Max V+: 5.5V; Op Pwr Diss: 5mW; Resolution (Bits): 12; Settling Time: 8µs; Single Supply: Yes; DatasheetVersion: Rev.G; PackageVersion: May-2005; PackageReference: RM-10; PackageDescription: 10-Lead Mini Small Outline Package [MSOP]; Supplier 1: Digi-Key; Supplier Part Number 1: AD5325BRMZ-REEL-ND; Supplier 2: Newark; Supplier Part Number 2: 59K3942; Supplier 3: Mouser; Supplier Part Number 3: 584-AD5325BRMZ-R; Packing: Reel; RoHS: Y; Mounting Technology: Surface Mount; ComponentLink1Description: Manufacturer URL; ComponentLink1URL: http://www.analog.com/en/index.html; ComponentLink2Description: Datasheet; ComponentLink2URL: http://www.analog.com/static/imported-files/data_sheets/AD5305_5315_5325.pdf; ComponentLink3Description: Package Specification; ComponentLink3URL: http://www.analog.com/static/imported-files/packages/PKG_PDF/MSOP%28RM%29/RM_10.pdf; ComponentLink4Description: Product URL; ComponentLink4URL: http://www.analog.com/en/digital-to-analog-converters/da-converters/ad5325/products/product.html
footprint RM-10_N (TSSOP, 10-Leads, Body 3x3mm, Pitch 0.5mm, IPC Medium Density)
footprint RM-10_L (TSSOP, 10-Leads, Body 3x3mm, Pitch 0.5mm, IPC High Density)
footprint RM-10_M (TSSOP, 10-Leads, Body 3x3mm, Pitch 0.5mm, IPC Low Density)
pins: 1 VDD (power) "Power Supply Input. These parts can be operated from 2.5 V to 5.5 V and the supply should be decoupled to GND.", 2 VOUTA (hiz) "Buffered Analog Output Voltage from DAC A. The output amplifier has rail-to-rail operation.", 3 VOUTB (hiz) "Buffered Analog Output Voltage from DAC B. The output amplifier has rail-to-rail operation.", 4 VOUTC (hiz) "Buffered Analog Output Voltage from DAC C. The output amplifier has rail-to-rail operation.", 5 REFIN (in) "Reference Input Pin for All Four DACs. It has an input range from 0.25 V to VDD.", 6 VOUTD (hiz) "Buffered Analog Output Voltage from DAC D. The output amplifier has rail-to-rail operation.", 7 GND (power) "Ground Reference Point for All Circuitry on the Part.", 8 SDA (io) "Serial Data Line. This is used in conjunction with the SCL line to clock data into or out of the 16-bit input shift register. It is a bidirectional open-drain data line that should be pulled to the supply with an external (See Datasheet)", 9 SCL (in) "Serial Clock Line. This is used in conjunction with the SDA line to clock data into or out of the 16-bit input shift register. Clock rates of up to 400 kb/s can be accommodated in the 2-wire interface.", 10 A0 (in) "Address Input. Sets the least significant bit of the 7-bit slave address."

## AD5325BRMZ-REEL7
designator U?
Quad 12-Bit Quad Voltage Output Digital-to-Analog Converter with 2-Wire Interface, 2.5 to 5.5 V, 500 uA, -40 to +105 degC, RM-10, Pb-Free, Reel; Generic Part Number: AD5325; Manufacturer: Analog Devices; PartNumber: AD5325BRMZ-REEL7; # DAC Outputs: 4; Max V+: 5.5V; Op Pwr Diss: 5mW; Resolution (Bits): 12; Settling Time: 8µs; Single Supply: Yes; DatasheetVersion: Rev.G; PackageVersion: May-2005; PackageReference: RM-10; PackageDescription: 10-Lead Mini Small Outline Package [MSOP]; Supplier 1: Digi-Key; Supplier Part Number 1: AD5325BRMZ-REEL7-ND; Supplier 2: Mouser; Supplier Part Number 2: 584-AD5325BRMZ-R7; Packing: Reel; RoHS: Y; Mounting Technology: Surface Mount; ComponentLink1Description: Manufacturer URL; ComponentLink1URL: http://www.analog.com/en/index.html; ComponentLink2Description: Datasheet; ComponentLink2URL: http://www.analog.com/static/imported-files/data_sheets/AD5305_5315_5325.pdf; ComponentLink3Description: Package Specification; ComponentLink3URL: http://www.analog.com/static/imported-files/packages/PKG_PDF/MSOP%28RM%29/RM_10.pdf; ComponentLink4Description: Product URL; ComponentLink4URL: http://www.analog.com/en/digital-to-analog-converters/da-converters/ad5325/products/product.html
footprint RM-10_N (TSSOP, 10-Leads, Body 3x3mm, Pitch 0.5mm, IPC Medium Density)
footprint RM-10_L (TSSOP, 10-Leads, Body 3x3mm, Pitch 0.5mm, IPC High Density)
footprint RM-10_M (TSSOP, 10-Leads, Body 3x3mm, Pitch 0.5mm, IPC Low Density)
pins: 1 VDD (power) "Power Supply Input. These parts can be operated from 2.5 V to 5.5 V and the supply should be decoupled to GND.", 2 VOUTA (hiz) "Buffered Analog Output Voltage from DAC A. The output amplifier has rail-to-rail operation.", 3 VOUTB (hiz) "Buffered Analog Output Voltage from DAC B. The output amplifier has rail-to-rail operation.", 4 VOUTC (hiz) "Buffered Analog Output Voltage from DAC C. The output amplifier has rail-to-rail operation.", 5 REFIN (in) "Reference Input Pin for All Four DACs. It has an input range from 0.25 V to VDD.", 6 VOUTD (hiz) "Buffered Analog Output Voltage from DAC D. The output amplifier has rail-to-rail operation.", 7 GND (power) "Ground Reference Point for All Circuitry on the Part.", 8 SDA (io) "Serial Data Line. This is used in conjunction with the SCL line to clock data into or out of the 16-bit input shift register. It is a bidirectional open-drain data line that should be pulled to the supply with an external (See Datasheet)", 9 SCL (in) "Serial Clock Line. This is used in conjunction with the SDA line to clock data into or out of the 16-bit input shift register. Clock rates of up to 400 kb/s can be accommodated in the 2-wire interface.", 10 A0 (in) "Address Input. Sets the least significant bit of the 7-bit slave address."

## AD5326ARU
designator U?
Quad 12-Bit Voltage Output Digital-to-Analog Converter with 2-Wire Interface, 2.5 to 5.5 V, 400 uA, -40 to +105 degC, RU-16, Tube; Generic Part Number: AD5326; Manufacturer: Analog Devices; PartNumber: AD5326ARU; # DAC Outputs: 4; Max V+: 5.5V; Op Pwr Diss: 2.5mW; Resolution (Bits): 12; Settling Time: 8µs; Single Supply: Yes; DatasheetVersion: Rev.F; PackageVersion: Nov-2002; PackageReference: RU-16; PackageDescription: 16-Lead Thin Shrink Small Outline Package [TSSOP]; Supplier 1: Digi-Key; Supplier Part Number 1: AD5326ARU-ND; Supplier 2: Mouser; Supplier Part Number 2: 584-AD5326ARU; Packing: Tube; RoHS: N; Mounting Technology: Surface Mount; Code_JEDEC: MO-153-AB; ComponentLink1Description: Manufacturer URL; ComponentLink1URL: http://www.analog.com/en/index.html; ComponentLink2Description: Datasheet; ComponentLink2URL: http://www.analog.com/static/imported-files/data_sheets/AD5306_5316_5326.pdf; ComponentLink3Description: Package Specification; ComponentLink3URL: http://www.analog.com/static/imported-files/packages/36244347913743854010197452789RU16.pdf; ComponentLink4Description: Product URL; ComponentLink4URL: http://www.analog.com/en/digital-to-analog-converters/da-converters/ad5326/products/product.html
footprint RU-16_N (TSOP, 16-Leads, Body 5x4.4mm, Pitch 0.65mm, IPC Medium Density)
footprint RU-16_L (TSOP, 16-Leads, Body 5x4.4mm, Pitch 0.65mm, IPC High Density)
footprint RU-16_M (TSOP, 16-Leads, Body 5x4.4mm, Pitch 0.65mm, IPC Low Density)
pins: 1 ~{LDAC} (in) "Active Low Control Input. Transfers the contents of the input registers to their respective DAC registers.Pulsing this pin low allows any or all DAC registers to be updated if the input registers have new data. This allows (See Datasheet)", 2 VDD (power) "Power Supply Input. These parts can be operated from 2.5 V to 5.5 V and the supply should be decoupled with a10 uF capacitor in parallel with a 0.1 uF capacitor to GND.", 3 VOUTA (hiz) "Buffered Analog Output Voltage from DAC A. The output amplifier has rail-to-rail operation.", 4 VOUTB (hiz) "Buffered Analog Output Voltage from DAC B. The output amplifier has rail-to-rail operation.", 5 VOUTC (hiz) "Buffered Analog Output Voltage from DAC C. The output amplifier has rail-to-rail operation.", 6 VREFA (in) "Reference Input Pin for DAC A. This pin can be configured as a buffered or an unbuffered input depending on the state of the BUF bit in the input word to DAC A. It has an input range from 0.25 V to VDD in unbuffered mode and (See Datasheet)", 7 VREFB (in) "Reference Input Pin for DAC B. This pin can be configured as a buffered or an unbuffered input depending on the state of the BUF bit in the input word to DAC B. It has an input range from 0.25 V to VDD in unbuffered mode and (See Datasheet)", 8 VREFC (in) "Reference Input Pin for DAC C. This pin can be configured as a buffered or an unbuffered input depending on the state of the BUF bit in the input word to DAC C. It has an input range from 0.25 V to VDD in unbuffered mode and (See Datasheet)", 9 VREFD (in) "Reference Input Pin for DAC D. This pin can be configured as a buffered or an unbuffered input depending on the state of the BUF bit in the input word to DAC D. It has an input range from 0.25 V to VDD in unbuffered mode and (See Datasheet)", 10 ~{PD} (in) "Active Low Control Input. Acts as a hardware power-down option. All DACs go into power-down mode when this pin is tied low. The DAC outputs go into a high impedance state. The current consumption of the part drops to 300 nA (See Datasheet)", 11 VOUTD (hiz) "Buffered Analog Output Voltage from DAC D. The output amplifier has rail-to-rail operation.", 12 GND (power) "Ground Reference Point for All Circuitry on the Part.", 13 SDA (io) "Serial Data Line. This is used in conjunction with the SCL line to clock data into the 16-bit input shift register.It is a bidirectional open-drain data line that should be pulled to the supply with an external pull-up (See Datasheet)", 14 SCL (in) "Serial Clock Line. This is used in conjunction with the SDA line to clock data into the 16-bit input shift register.Clock rates of up to 400 kbps can be accommodated in the I2C-compatible interface.", 15 A0 (in) "Address Input. Sets the LSB of the 7-bit slave address.", 16 A1 (in) "Address Input. Sets the second LSB of the 7-bit slave address."